# Altium schematic symbol library 2019-05-27_23-32-10.SchLib: 2 symbols
Pins are listed as number, name and electrical type; pins without a type are passive.

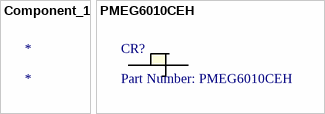
[diagram p0: symbols Component_1 to PMEG6010CEH]

## Component_1
designator *

## PMEG6010CEH
designator CR?, comment Part Number: PMEG6010CEH
No Description Available; Vendor: NXP; Built_By: EMA_UL_Team; Type: DEV; Manufacturer_Part_Number: PMEG6010CEH; Copyright: Copyright (C) 2018 Accelerated Designs. All rights reserved; RefDes: RefDes; Value: Value
footprint SOD323F
pins: 1, 2